# Altium schematic symbol library Schlib1.SchLib: 22 symbols
Pins are listed as number, name and electrical type; pins without a type are passive.

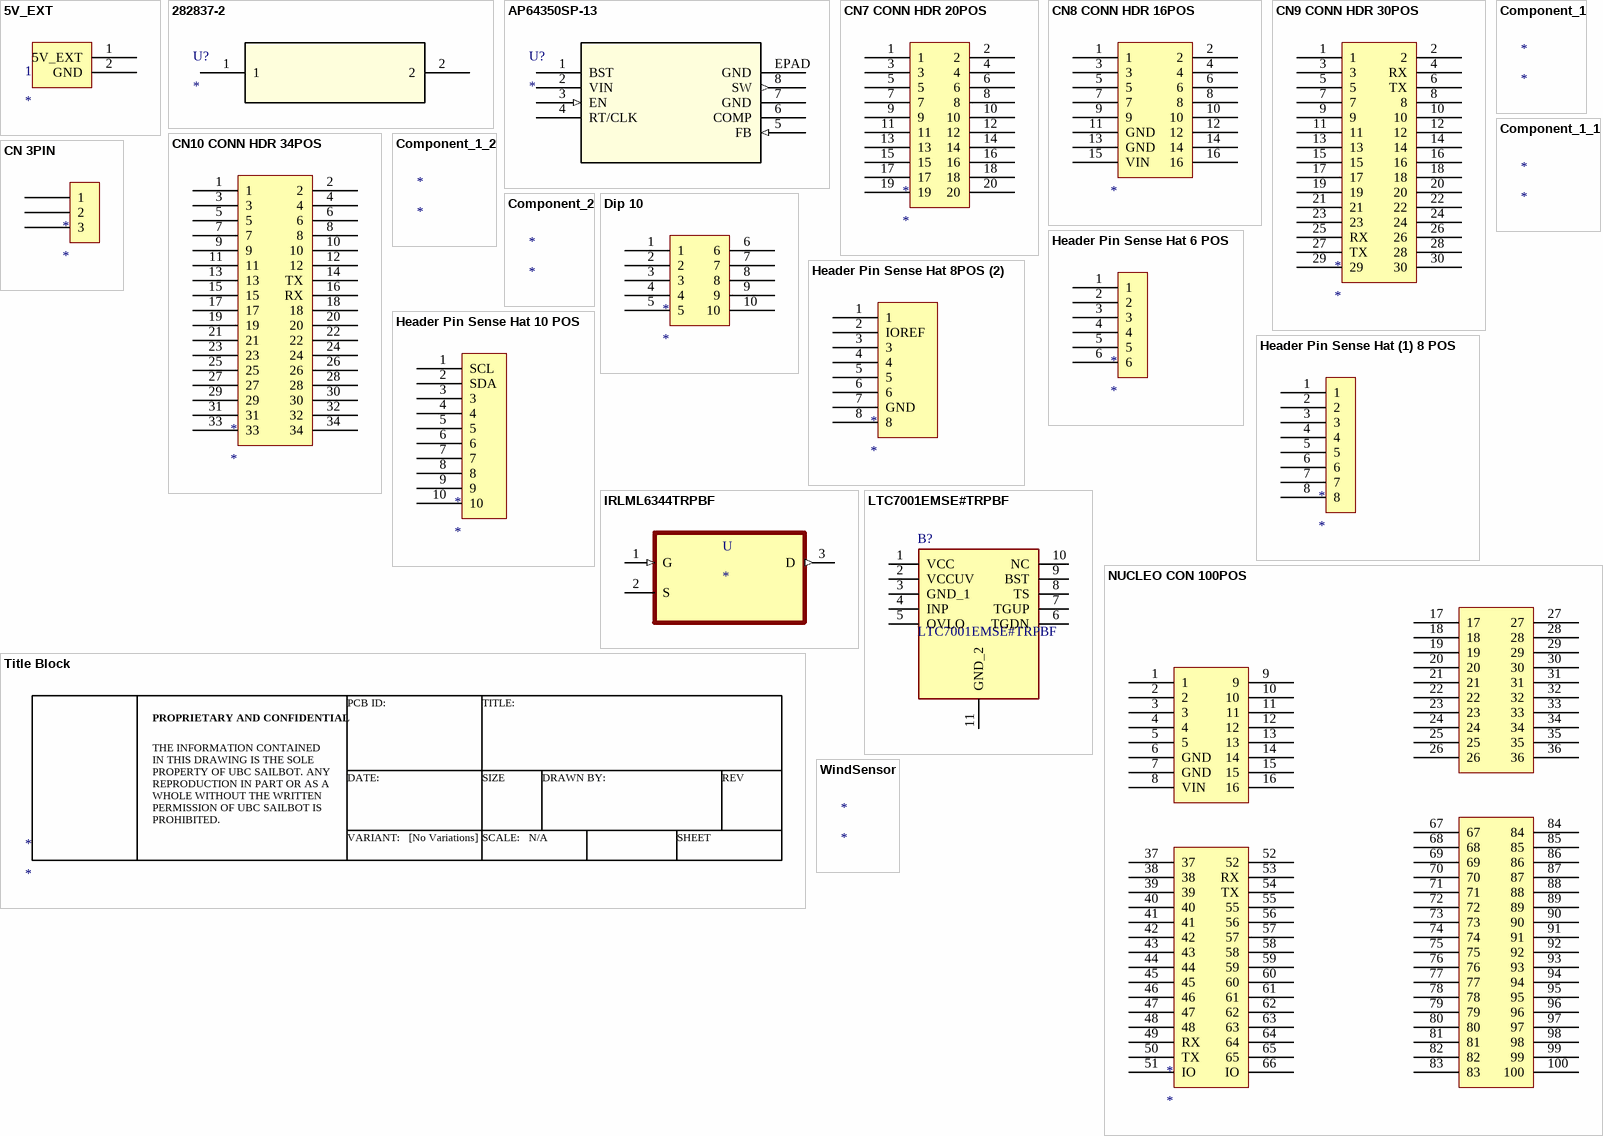
[diagram p0: symbols 5V_EXT to WindSensor]

## 5V_EXT
designator 1
footprint 5V_EXT
pins: 1 5V_EXT, 2 GND

## 282837-2
designator U?
No Description Available; Mfr_Name: TE Connectivity; RefDes: RefDes; Type: Type
footprint 282837-2_TYC
pins: 1, 2

## AP64350SP-13
designator U?
No Description Available; Mfr_Name: Diodes Inc; RefDes: RefDes; Type: Type
footprint SO-8EP_DIO
pins: 1 BST (power), 2 VIN (power), 3 EN (in), 4 RT/CLK, 5 FB (in), 6 COMP, 7 GND (power), 8 SW (out), EPAD GND (power)

## CN7 CONN HDR 20POS
designator *
CN7 CONN HDR 20 POS  0.1 STACK
footprint CN7_10X2_PADS
pins: 1, 2, 3, 4, 5, 6, 7, 8, 9, 10, 11, 12, 13, 14, 15, 16, 17, 18, 19, 20

## CN8 CONN HDR 16POS
designator ?
CN8 CONN HDR 16POS 0.1 STACK
footprint CN8_8X2_PADS
pins: 1, 2, 3, 4, 5, 6, 7, 8, 9, 10, 11 GND, 12, 13 GND, 14, 15 VIN, 16

## CN9 CONN HDR 30POS
designator *
CN9 CONN HDR 30 POS  0.1 STACK
footprint CN9_15X2_PADS
pins: 1, 2, 3, 4 RX, 5, 6 TX, 7, 8, 9, 10, 11, 12, 13, 14, 15, 16, 17, 18, 19, 20, 21, 22, 23, 24, 25 RX, 26, 27 TX, 28, 29, 30

## CN10 CONN HDR 34POS
designator *
CN10 CONN HDR 34 POS  0.1 STACK
footprint CN10_17X2_PADS
pins: 1, 2, 3, 4, 5, 6, 7, 8, 9, 10, 11, 12, 13, 14 TX, 15, 16 RX, 17, 18, 19, 20, 21, 22, 23, 24, 25, 26, 27, 28, 29, 30, 31, 32, 33, 34

## CN 3PIN
designator *
footprint 3X1 CON
pins: 1, 2, 3

## Component_1
designator *

## Component_1_1
designator *

## Component_1_2
designator *

## Component_2
designator *

## Dip 10
designator *
footprint DIP10
pins: 1, 2, 3, 4, 5, 6, 7, 8, 9, 10

## Header Pin Sense Hat 6 POS
designator *
footprint Header Pins Sense Hat 6POS
pins: 1, 2, 3, 4, 5, 6

## Header Pin Sense Hat 8POS (2)
designator *
footprint Header Pins Sense Hat 8POS
pins: 1, 2 IOREF, 3, 4, 5, 6, 7 GND, 8

## Header Pin Sense Hat 10 POS
designator *
footprint Header Pin Sense Hat 10POS
pins: 1 SCL, 2 SDA, 3, 4, 5, 6, 7, 8, 9, 10

## Header Pin Sense Hat (1) 8 POS
designator *
footprint Header Pins Sense Hat 8POS
pins: 1, 2, 3, 4, 5, 6, 7, 8

## IRLML6344TRPBF
designator U
N-Channel 30V 5A _Ta_ 1.3W _Ta_ Surface Mount Micro3â„¢/SOT-23; MF: Infineon Technologies; MP: IRLML6344TRPBF; Package: SOT-23 Infineon; Value: *; Price: None; Availability: Unavailable; SnapEDA_Link: https://www.snapeda.com/parts/IRLML6344TRPBF/Infineon%20Technologies/view-part/1786730/?ref=snap
footprint SOT95P240X112-3N
pins: 1 G (in), 2 S, 3 D (out)

## LTC7001EMSE#TRPBF
designator B?
Gate Drivers Fast 150V High Side NMOS Static Switch Driver; Manufacturer_Name: Analog Devices; Geometry.Height: 1.1mm; Mouser Part Number: 584-7001EMSETRPBF; Mouser Price/Stock: https://www.mouser.co.uk/ProductDetail/Analog-Devices/LTC7001EMSETRPBF?qs=BZBei1rCqCA9TIuicvBnQQ%3D%3D; Manufacturer_Part_Number: LTC7001EMSE#TRPBF; Datasheet Link: https://www.analog.com/media/en/technical-documentation/data-sheets/ltc7001.pdf
footprint SOP50P490X110-11N
pins: 1 VCC, 2 VCCUV, 3 GND_1, 4 INP, 5 OVLO, 6 TGDN, 7 TGUP, 8 TS, 9 BST, 10 NC, 11 GND_2

## NUCLEO CON 100POS
designator *
footprint NUCLEO 4CON
pins: 1, 2, 3, 4, 5, 6 GND, 7 GND, 8 VIN, 9, 10, 11, 12, 13, 14, 15, 16, 17, 18, 19, 20, 21, 22, 23, 24, 25, 26, 27, 28, 29, 30, 31, 32, 33, 34, 35, 36, 37, 38, 39, 40, 41, 42, 43, 44, 45, 46, 47, 48, 49 RX, 50 TX, 51 IO, 52, 53 RX, 54 TX, 55, 56, 57, 58, 59, 60, 61, 62, 63, 64, 65, 66 IO, 67, 68, 69, 70, 71, 72, 73, 74, 75, 76, 77, 78, 79, 80, 81, 82, 83, 84, 85, 86, 87, 88, 89, 90, 91, 92, 93, 94, 95, 96, 97, 98, 99, 100

## Title Block
designator *
text: PCB ID:; TITLE:; PROPRIETARY AND CONFIDENTIAL; DATE:; SIZE; DRAWN BY:; REV; A; THE INFORMATION CONTAINED IN THIS DRAWING IS THE SOLE PROPERTY OF UBC SAILBOT. ANY REPRODUCTION IN PART OR AS A WHOLE WITHOUT THE WRITTEN PERMISSION OF UBC SAILBOT IS PROHIBITED.; VARIANT:   [No Variations]; SCALE:   N/A; SHEET

## WindSensor
designator *